# Altium schematic symbol library EEU-FS1K471L.SchLib: 1 symbol
Pins are listed as number, name and electrical type; pins without a type are passive.

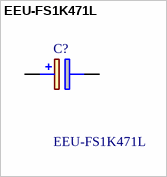
[diagram p0: symbol EEU-FS1K471L]

## EEU-FS1K471L
designator C?
Aluminum Electrolytic Capacitors - Radial Leaded 80VDC 470uF 2200mA Polar; Manufacturer_Name: Panasonic; Geometry.Height: 32mm; Mouser Part Number: 667-EEU-FS1K471L; Mouser Price/Stock: https://www.mouser.co.uk/ProductDetail/Panasonic/EEU-FS1K471L?qs=w%2Fv1CP2dgqqjJHyTcyNSMQ%3D%3D; Manufacturer_Part_Number: EEU-FS1K471L; Datasheet Link: http://industrial.panasonic.com/cdbs/www-data/pdf/RDF0000/ABA0000C1255.pdf
footprint CAPPRD500W80D1250H3200
pins: 1 +, 2 -